# EAGLE library part B6B-XH-A (library B6B-XH-A)
Connector Header, XH Series, 6 Position, 2.50mm, Through Hole, Press-Fit, Solder, Natural Source: Datasheet <https://www.jst.com/wp-content/uploads/2021/01/eXH-new.pdf>
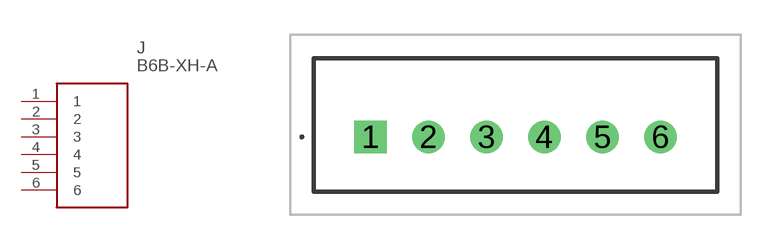
[diagram p0: symbol with the pads of B6BXHA; footprint B6BXHA]

Designator prefix J

## B6B-XH-A (Description: Connector Header, XH Series, 6 Position, 2.50mm, Through Hole, Press-Fit, Solder, Natural; Height: 7mm; Manufacturer_Name: JST (JAPAN SOLDERLESS TERMINALS); Manufacturer_Part_Number: B6B-XH-A)  [B6BXHA]
1  1
2  2
3  3
4  4
5  5
6  6

## Footprint B6BXHA (pad centres in mm)
B6B-XH-A-3
drill 0.9 pad 1.4 square: 1 0,0
drill 0.9 pad 1.4: 2 2.5,0; 3 5,0; 4 7.5,0; 5 10,0; 6 12.5,0